# Altium footprint library HMC5883_module.PcbLib: 11 footprints
Each footprint in its own frame and in the unit in brackets; x right, y up, seen from the top. Pads: shape width x height; smd on the part's side, far side on the other; paste and mask are expansions set on the pad; w line width, h text height; cw(c..) or ccw(c..) is an arc to the next point about the centre after c.
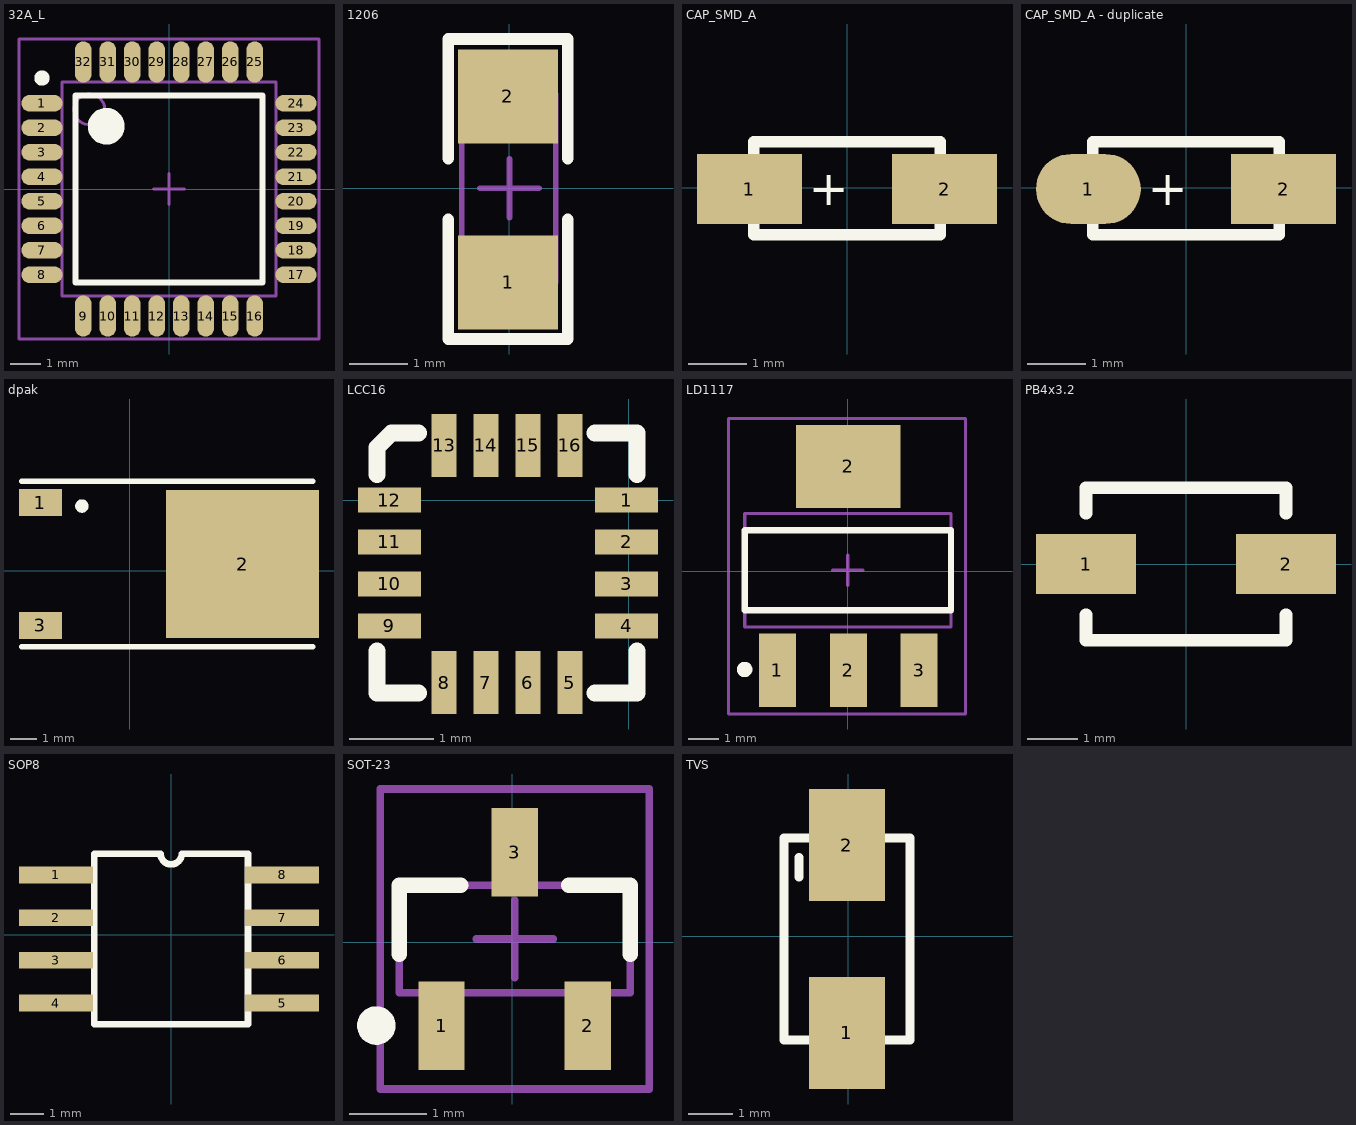
[diagram p0: the footprints below, top view; thin cyan lines are the x and y axes]

## 32A_L [mm] "Thin QFP, 32-Leads, Body 7x7mm, Pitch 0.8mm, IPC High Density"
height 1.2
pads (32):
  oval 1.35x0.55 smd: 1(-4.15,2.8) 2(-4.15,2) 3(-4.15,1.2) 4(-4.15,0.4) 5(-4.15,-0.4) 6(-4.15,-1.2) 7(-4.15,-2) 8(-4.15,-2.8) 17(4.15,-2.8) 18(4.15,-2) 19(4.15,-1.2) 20(4.15,-0.4) 21(4.15,0.4) 22(4.15,1.2) 23(4.15,2) 24(4.15,2.8)
  oval 0.55x1.35 smd: 9(-2.8,-4.15) 10(-2,-4.15) 11(-1.2,-4.15) 12(-0.4,-4.15) 13(0.4,-4.15) 14(1.2,-4.15) 15(2,-4.15) 16(2.8,-4.15) 25(2.8,4.15) 26(2,4.15) 27(1.2,4.15) 28(0.4,4.15) 29(-0.4,4.15) 30(-1.2,4.15) 31(-2,4.15) 32(-2.8,4.15)
Top Overlay:
  circle w0.6: c-2.05,2.05 r0.3
  circle w0.25: c-4.15,3.625 r0.125
  lines w0.2: -3.05,-3.05 3.05,-3.05 3.05,3.05 -3.05,3.05 -3.05,-3.05
Mechanical 13:
  circle w0.1: c-2.6,2.6 r0.5
  lines w0.1: -3.5,-3.5 3.5,-3.5 3.5,3.5 -3.5,3.5 -3.5,-3.5
Mechanical 15:
  lines w0.1: -0.5,0 0.5,0 ; 0,-0.5 0,0.5 ; -4.9,-4.9 4.9,-4.9 4.9,4.9 -4.9,4.9 -4.9,-4.9
3D body: height 1.2, standoff 0, extent -3.5,-3.5 3.5,3.5

## 1206 [mm]
pads (2):
  rect 1.7x1.6 smd: 1(-0.025,-1.6) 2(-0.025,1.563)
Top Overlay:
  lines w0.2: -1.041,-0.533 -1.041,-2.565 0.991,-2.565 0.991,-0.533 ; -1.041,0.508 -1.041,2.54 0.991,2.54 0.991,0.508
Mechanical 15:
  lines w0.1: -0.5,0 0.5,0 ; 0,-0.5 0,0.5 ; -0.813,-1.6 0.787,-1.6 0.787,1.6 -0.813,1.6 -0.813,-1.6
3D body: height 1.1, standoff 0, extent -0.813,-1.422 0.787,1.422
3D body: height 1.1, standoff 0, extent -0.813,-1.676 0.787,-1.422
3D body: height 1.1, standoff 0, extent -0.813,1.422 0.787,1.676

## CAP_SMD_A [mm]
pads (2):
  rect 1.8x1.2 smd: 1(-1.676,-0.025) 2(1.676,-0.025)
Top Overlay:
  lines w0.2: -1.6,-0.813 -1.6,0.787 1.6,0.787 1.6,-0.813 -1.6,-0.813
  text "+" at -0.66,-0.305 h0.6

## CAP_SMD_A - duplicate [mm]
pads (2):
  oval 1.8x1.2 smd: 1(-1.676,-0.025)
  rect 1.8x1.2 smd: 2(1.676,-0.025)
Top Overlay:
  lines w0.2: -1.6,-0.813 -1.6,0.787 1.6,0.787 1.6,-0.813 -1.6,-0.813
  text "+" at -0.66,-0.305 h0.6
3D body "User Library-CAP_TANT_3216-18_A_case-1.step": height 1.7, standoff 0, extent -1.7,-0.889 1.7,0.911

## dpak [mm]
pads (3):
  rect 1.6x1 smd: 1(-3.319,2.539) 3(-3.319,-2.031)
  rect 5.7x5.5 smd: 2(4.208,0.254)
Top Overlay:
  circle w0.25: c-1.776,2.413 r0.125
  lines w0.2: -4.019,-2.831 6.831,-2.831 ; -4.019,3.339 6.831,3.339
3D body "DPAK-1.STEP": height 2.44, standoff 0.03, extent -3.699,-3.048 6.239,3.492

## LCC16 [mm] "HMC5883"
pads (16):
  rect 0.75x0.3 smd: 1(-0.025,0) 2(-0.025,-0.5) 3(-0.025,-1) 4(-0.025,-1.5) 9(-2.852,-1.5) 10(-2.852,-1) 11(-2.852,-0.5) 12(-2.852,0)
  rect 0.3x0.75 smd: 5(-0.701,-2.176) 6(-1.201,-2.176) 7(-1.701,-2.176) 8(-2.201,-2.176) 13(-2.201,0.65) 14(-1.701,0.65) 15(-1.201,0.65) 16(-0.701,0.65)
Top Overlay:
  lines w0.2: -3.001,-1.8 -3.001,-2.3 -2.501,-2.3 ; -3.001,0.3 -3.001,0.625 -2.826,0.8 -2.501,0.8 ; -0.401,-2.3 0.099,-2.3 0.099,-1.8 ; -0.401,0.8 0.099,0.8 0.099,0.3
3D body "User Library-LPCC 16.step": height 0.9, standoff 0, extent -2.949,-2.263 0.051,0.737

## LD1117 [mm]
pads (4):
  rect 1.2x2.4 smd: 1(-2.286,-3.226) 2(0.017,-3.226) 3(2.316,-3.226)
  rect 3.4x2.7 smd: 2(0.017,3.404)
Top Overlay:
  circle w0.25: c-3.351,-3.2 r0.125
  lines w0.2: -3.35,-1.275 3.35,-1.275 3.35,1.325 -3.35,1.325 -3.35,-1.275
Mechanical 13:
  lines w0.1: -3.35,-1.825 3.35,-1.825 3.35,1.875 -3.35,1.875 -3.35,-1.825
Mechanical 15:
  lines w0.1: -0.5,0.025 0.5,0.025 ; 0,-0.475 0,0.525 ; -3.875,-4.648 -3.875,4.952 3.825,4.952 3.825,-4.648 -3.875,-4.648
3D body: height 1.7, standoff 0, extent -3.35,-1.825 3.35,1.875

## PB4x3.2 [mm]
pads (2):
  rect 2x1.2 smd: 1(-2,0) 2(2,0)
Top Overlay:
  lines w0.254: -2,-1.016 -2,-1.524 2,-1.524 2,-1.016 ; -2,1.016 -2,1.524 2,1.524 2,1.016

## SOP8 [mm]
pads (8):
  rect 2.2x0.5 smd: 1(-3.429,1.778) 2(-3.429,0.508) 3(-3.429,-0.762) 4(-3.429,-2.032) 5(3.298,-2.032) 6(3.298,-0.762) 7(3.298,0.508) 8(3.298,1.778)
Top Overlay:
  lines w0.2: -2.286,-2.667 2.286,-2.667 2.286,2.413 0.315,2.413 cw(c-0.002,2.413) -0.32,2.413 -2.286,2.413 -2.286,-2.667
3D body "User Library-so8-3.step": height 1.7, standoff 0, extent -3.006,-2.564 2.994,2.336

## SOT-23 [mm]
pads (3):
  rect 0.6x1.15 smd: 1(-0.919,-1.081) 2(0.981,-1.081) 3(0.031,1.169)
Top Overlay:
  circle w0.25: c-1.769,-1.081 r0.125
  lines w0.2: -1.469,-0.156 -1.469,0.744 -0.669,0.744 ; 0.731,0.744 1.531,0.744 1.531,-0.156
Mechanical 13:
  lines w0.1: -1.469,-0.656 -1.469,0.744 1.531,0.744 1.531,-0.656 -1.469,-0.656
Mechanical 15:
  lines w0.1: -0.469,0.044 0.531,0.044 ; 0.031,-0.456 0.031,0.544 ; -1.719,-1.906 -1.719,1.994 1.781,1.994 1.781,-1.906 -1.719,-1.906
3D body "User Library-N-MOS_BSS123_SOT23.STEP": height 1, standoff 0, extent -1.419,-1.181 1.481,1.119

## TVS [mm]
pads (2):
  rect 1.7x2.5 smd: 1(-0.025,-2.159) 2(-0.025,2.032)
Top Overlay:
  lines w0.2: -1.092,1.321 -1.092,1.753 ; -1.422,-2.316 -1.422,2.184 1.378,2.184 1.378,-2.316 -1.422,-2.316
3D body: height 2.23, standoff 0, extent -1.502,1.803 1.422,2.007
3D body: height 2.2, standoff 0, extent -1.499,-2.54 1.421,2.515
3D body: height 1.5, standoff 0, extent -1.016,-2.756 0.965,-2.527
3D body: height 1.5, standoff 0, extent -1.016,2.515 0.965,2.743